# Altium schematic symbol library Schematic_Capacitor.SchLib: 1 symbol
Pins are listed as number, name and electrical type; pins without a type are passive.

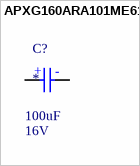
[diagram p0: symbol APXG160ARA101ME61G]

## APXG160ARA101ME61G
designator C?  value 100uF  Voltage Rating: 16V
Cap Aluminum Polymer 100uF 16VDC 20%( 5 X 5.8mm) SMD 0.027 Ohm 3000mA 1000h 105C T/R; Manufacturer: United Chemi-Con; Manufacturer Part Number: APXG160ARA101ME61G; ESR (Equivalent Series Resistance): 27mR; Ripple Current: 3A; Leakage Current: 320uA; Polarity: Polar; Dissipation Factor: 0.12%; Life (Hours): 15000Hour; Supplier 1: Digi-Key; RoHS: Yes; Category: Polymer Capacitors; Stock 1: 62284; Pricing 1: 1=0.75000, 10=0.55100, 50=0.44120, 100=0.37810, 500=0.29934 (USD); Mounting Technology: Surface Mount; Case/Package: Radial; Min Operating Temperature: -55°C; Max Operating Temperature: 105°C; Packaging: Tape and Reel; Voltage Rating (DC): 16V; Tolerance: 20%; Package Quantity: 1000; Termination: SMD/SMT; Series: NPCAP™-PXG; Length: 5.8mm; Height - Seated (Max): 0.24inch; RoHS Compliant: Yes; ComponentLink1URL: https://datasheet.ciiva.com/12551/10398257965107f02b7aebc-220438-12551376.pdf?src-supplier=Mouser; ComponentLink1Description: https://datasheet.ciiva.com/12551/10398257965107f02b7aebc-220438-12551376.pdf?src-supplier=Mouser
footprint CAPAE5953X61M (Aluminum Electrolytic Capacitor, Body 5.30x5.30x6.10mm, IPC Low Density)
pins: 1, 2
text: +; -